# EAGLE library part IS62WV25616EBLL-45 (library ICs)
SRAM - Asynchronous Memory IC 4Mb (256K x 16) Parallel 45ns 48-TFBGA (6x8)
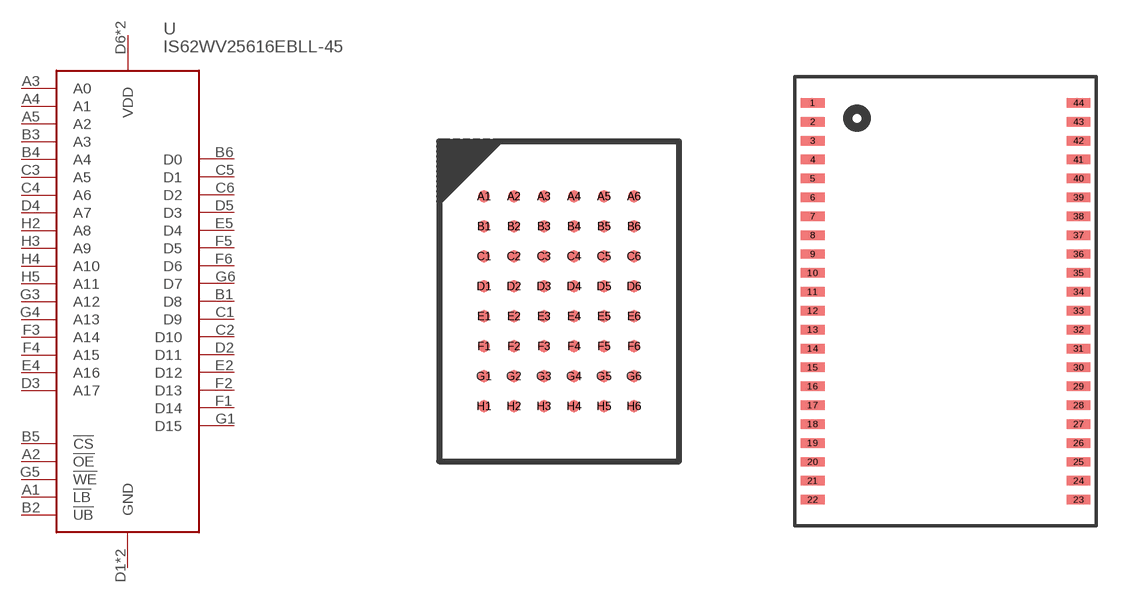
[diagram p199: symbol with the pads of MINIBGA48; footprints MINIBGA48, TSOP_II_44PIN]

Designator prefix U

## IS62WV25616EBLL-45BLI (DIGIKEY: 706-1507-ND; HEIGHT: 1; PRICE_PER: 2.59; VALUE: 256k SRAM)  [MINIBGA48]
A1  !LB
A2  !OE
A3  A0
A4  A1
A5  A2
B1  D8
B2  !UB
B3  A3
B4  A4
B5  !CS
B6  D0
C1  D9
C2  D10
C3  A5
C4  A6
C5  D1
C6  D2
D1  GND
D2  D11
D3  A17
D4  A7
D5  D3
D6  VDD
E1  VDD
E2  D12
E4  A16
E5  D4
E6  GND
F1  D14
F2  D13
F3  A14
F4  A15
F5  D5
F6  D6
G1  D15
G3  A12
G4  A13
G5  !WE
G6  D7
H2  A8
H3  A9
H4  A10
H5  A11

## IS62WV25616EBLL-45TLI (DIGIKEY: 706-1468-ND; HEIGHT: 1.2; PRICE_PER: 2.51; VALUE: 256kB SRAM)  [TSOP_II_44PIN]
1  A4
2  A3
3  A2
4  A1
5  A0
6  !CS
7  D0
8  D1
9  D2
10  D3
11  VDD
12  GND
13  D4
14  D5
15  D6
16  D7
17  !WE
18  A16
19  A15
20  A14
21  A13
22  A12
23  A17
24  A11
25  A10
26  A9
27  A8
29  D8
30  D9
31  D10
32  D11
33  VDD
34  GND
35  D12
36  D13
37  D14
38  D15
39  !LB
40  !UB
41  !OE
42  A7
43  A6
44  A5

## Footprint MINIBGA48 (pad centres in mm)
smd 0.3 x 0.3: A1 -1.875,2.625; A2 -1.125,2.625; A3 -0.375,2.625; A4 0.375,2.625; A5 1.125,2.625; A6 1.875,2.625; B1 -1.875,1.875; B2 -1.125,1.875; B3 -0.375,1.875; B4 0.375,1.875; B5 1.125,1.875; B6 1.875,1.875; C1 -1.875,1.125; C2 -1.125,1.125; C3 -0.375,1.125; C4 0.375,1.125; C5 1.125,1.125; C6 1.875,1.125; D1 -1.875,0.375; D2 -1.125,0.375; D3 -0.375,0.375; D4 0.375,0.375; D5 1.125,0.375; D6 1.875,0.375; E1 -1.875,-0.375; E2 -1.125,-0.375; E3 -0.375,-0.375; E4 0.375,-0.375; E5 1.125,-0.375; E6 1.875,-0.375; F1 -1.875,-1.125; F2 -1.125,-1.125; F3 -0.375,-1.125; F4 0.375,-1.125; F5 1.125,-1.125; F6 1.875,-1.125; G1 -1.875,-1.875; G2 -1.125,-1.875; G3 -0.375,-1.875; G4 0.375,-1.875; G5 1.125,-1.875; G6 1.875,-1.875; H1 -1.875,-2.625; H2 -1.125,-2.625; H3 -0.375,-2.625; H4 0.375,-2.625; H5 1.125,-2.625; H6 1.875,-2.625

## Footprint TSOP_II_44PIN (pad centres in mm)
smd 1 x 0.4: 1 -5.625,8.4; 2 -5.625,7.6; 3 -5.625,6.8; 4 -5.625,6; 5 -5.625,5.2; 6 -5.625,4.4; 7 -5.625,3.6; 8 -5.625,2.8; 9 -5.625,2; 10 -5.625,1.2; 11 -5.625,0.4; 12 -5.625,-0.4; 13 -5.625,-1.2; 14 -5.625,-2; 15 -5.625,-2.8; 16 -5.625,-3.6; 17 -5.625,-4.4; 18 -5.625,-5.2; 19 -5.625,-6; 20 -5.625,-6.8; 21 -5.625,-7.6; 22 -5.625,-8.4; 23 5.625,-8.4; 24 5.625,-7.6; 25 5.625,-6.8; 26 5.625,-6; 27 5.625,-5.2; 28 5.625,-4.4; 29 5.625,-3.6; 30 5.625,-2.8; 31 5.625,-2; 32 5.625,-1.2; 33 5.625,-0.4; 34 5.625,0.4; 35 5.625,1.2; 36 5.625,2; 37 5.625,2.8; 38 5.625,3.6; 39 5.625,4.4; 40 5.625,5.2; 41 5.625,6; 42 5.625,6.8; 43 5.625,7.6; 44 5.625,8.4